# Altium footprint library WCAP-FTXH.PcbLib: 36 footprints (part 2 of 3)
Each footprint in its own frame and in the unit in brackets; x right, y up, seen from the top. Pads: shape width x height; smd on the part's side, far side on the other; paste and mask are expansions set on the pad; w line width, h text height; cw(c..) or ccw(c..) is an arc to the next point about the centre after c.
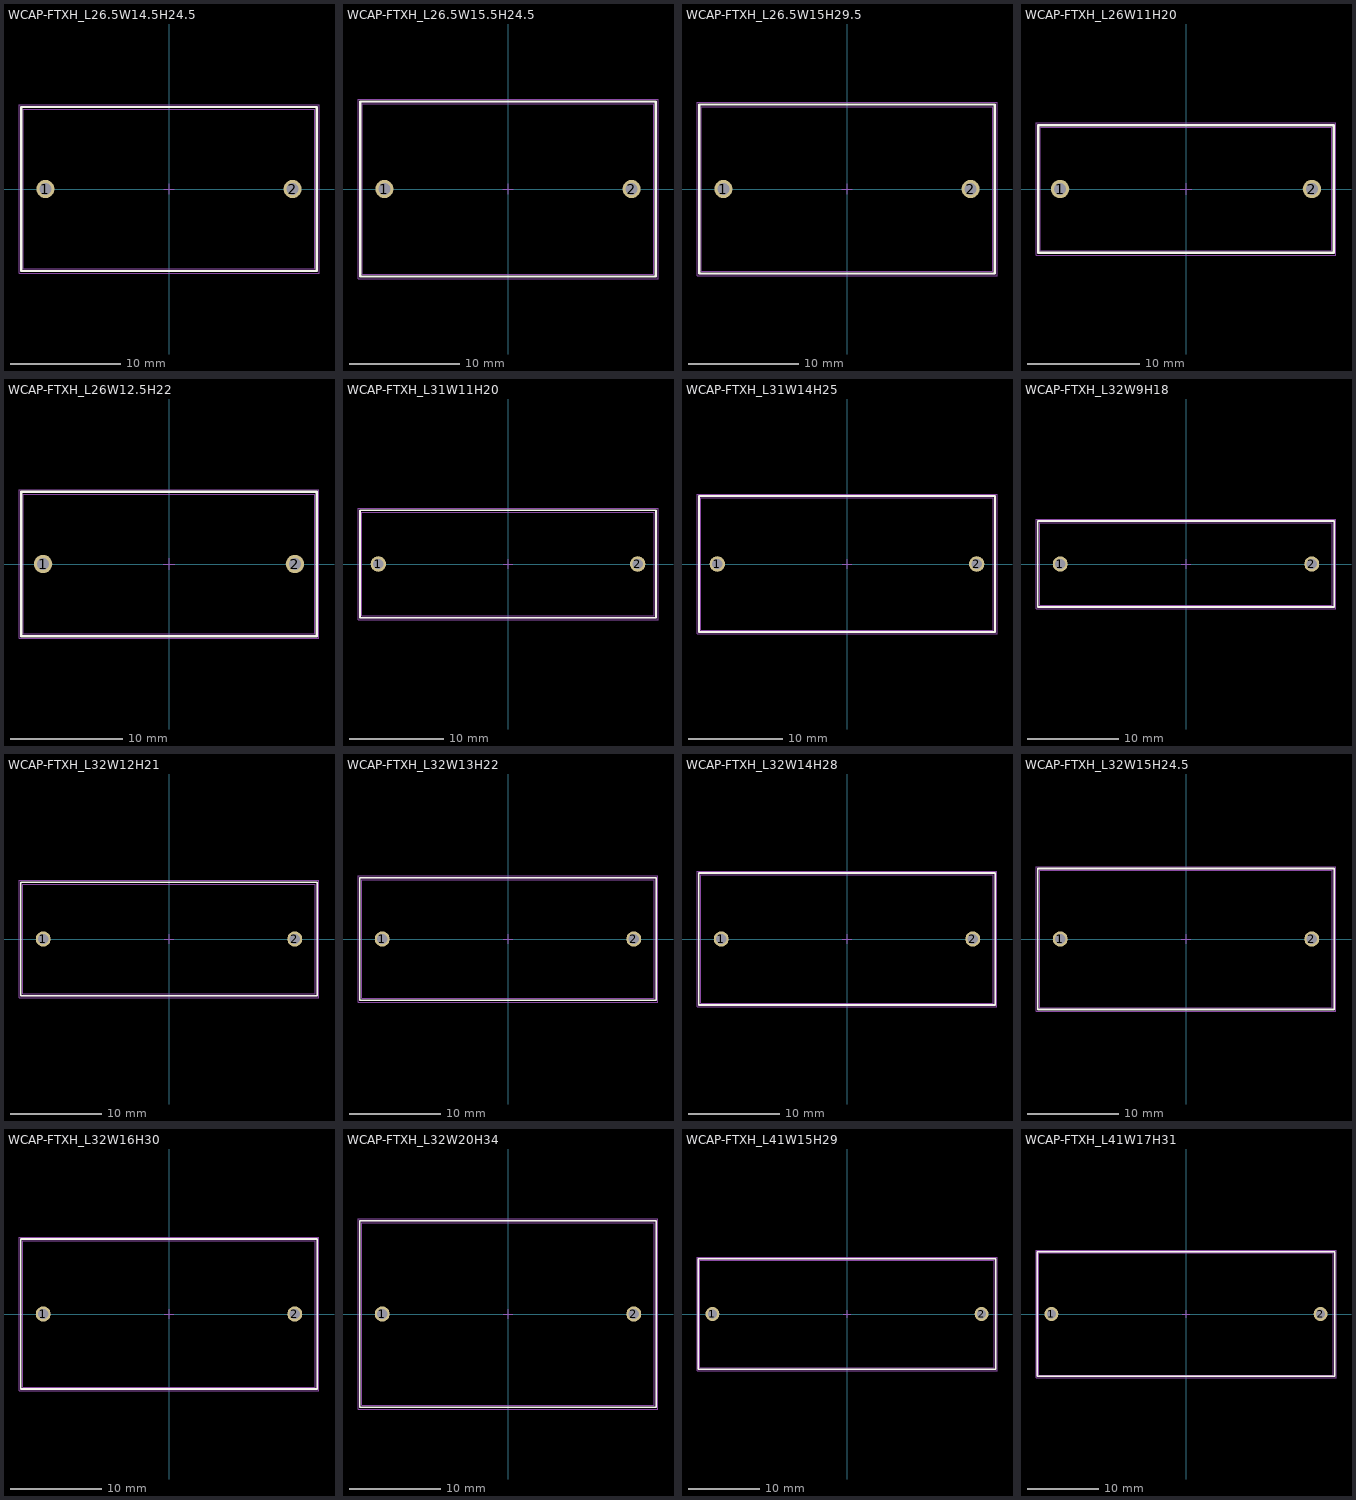
[diagram p1: the footprints below, top view; thin cyan lines are the x and y axes]

## WCAP-FTXH_L26.5W14.5H24.5 [mm] "Film Capacitor, body 26.50x14.50mm"
height 24.5
pads (2):
  round 1.65 hole 1.1: 1(-11.25,0) 2(11.25,0)
Top Overlay:
  lines w0.2: -13.45,-7.45 13.45,-7.45 13.45,7.45 -13.45,7.45 -13.45,-7.45
Top Assembly:
  lines w0.1: -13.45,-7.45 13.45,-7.45 13.45,7.45 -13.45,7.45 -13.45,-7.45
Top Designator:
  text ".Designator" at -3.647,-0.357 h1
Top 3D Body:
  lines w0.1: -13.25,-7.25 13.25,-7.25 13.25,7.25 -13.25,7.25 -13.25,-7.25
Top Courtyard:
  lines w0.05: -13.65,-7.65 13.65,-7.65 13.65,7.65 -13.65,7.65 -13.65,-7.65
Top Component Center:
  lines w0.1: -0.5,0 0.5,0 ; 0,-0.5 0,0.5
3D body "22,5x26,5x14,5x24,5.stp": height 24.35, standoff -3.85, extent -13.25,-7.25 13.25,7.25

## WCAP-FTXH_L26.5W15.5H24.5 [mm] "Film Capacitor, body 26.50x15.50mm"
height 24.5
pads (2):
  round 1.65 hole 1.1: 1(-11.25,0) 2(11.25,0)
Top Overlay:
  lines w0.2: -13.45,-7.95 -13.45,7.95 13.45,7.95 13.45,-7.95 -13.45,-7.95
Top Assembly:
  lines w0.1: -13.45,-7.95 -13.45,7.95 13.45,7.95 13.45,-7.95 -13.45,-7.95
Top Designator:
  text ".Designator" at -3.647,-0.357 h1
Top 3D Body:
  lines w0.1: -13.25,-7.75 -13.25,7.75 13.25,7.75 13.25,-7.75 -13.25,-7.75
Top Courtyard:
  lines w0.05: -13.65,-8.15 -13.65,8.15 13.65,8.15 13.65,-8.15 -13.65,-8.15
Top Component Center:
  lines w0.1: -0.5,0 0.5,0 ; 0,-0.5 0,0.5
3D body "22,5x26,5x15,5x24,5.stp": height 24.35, standoff -3.85, extent -13.25,-7.75 13.25,7.75

## WCAP-FTXH_L26.5W15H29.5 [mm] "Film Capacitor, body 26.50x15.00mm"
height 29.5
pads (2):
  round 1.65 hole 1.1: 1(-11.25,0) 2(11.25,0)
Top Overlay:
  lines w0.2: -13.45,-7.7 -13.45,7.7 13.45,7.7 13.45,-7.7 -13.45,-7.7
Top Assembly:
  lines w0.1: -13.45,-7.7 -13.45,7.7 13.45,7.7 13.45,-7.7 -13.45,-7.7
Top Designator:
  text ".Designator" at -3.647,-0.357 h1
Top 3D Body:
  lines w0.1: -13.25,-7.5 -13.25,7.5 13.25,7.5 13.25,-7.5 -13.25,-7.5
Top Courtyard:
  lines w0.05: -13.65,-7.9 -13.65,7.9 13.65,7.9 13.65,-7.9 -13.65,-7.9
Top Component Center:
  lines w0.1: -0.5,0 0.5,0 ; 0,-0.5 0,0.5
3D body "22,5x26,5x15x29,5.stp": height 29.35, standoff -3.85, extent -13.25,-7.5 13.25,7.5

## WCAP-FTXH_L26W11H20 [mm] "Film Capacitor, body 26.50x11.00mm"
height 20
pads (2):
  round 1.65 hole 1.1: 1(-11.25,0) 2(11.25,0)
Top Overlay:
  lines w0.2: -13.2,-5.7 -13.2,5.7 13.2,5.7 13.2,-5.7 -13.2,-5.7
Top Assembly:
  lines w0.1: -13.2,-5.7 -13.2,5.7 13.2,5.7 13.2,-5.7 -13.2,-5.7
Top Designator:
  text ".Designator" at -3.647,-0.357 h1
Top 3D Body:
  lines w0.1: -13,-5.5 -13,5.5 13,5.5 13,-5.5 -13,-5.5
Top Courtyard:
  lines w0.05: -13.4,-5.9 -13.4,5.9 13.4,5.9 13.4,-5.9 -13.4,-5.9
Top Component Center:
  lines w0.1: -0.5,0 0.5,0 ; 0,-0.5 0,0.5
3D body "22,5x26x11x20.stp": height 19.85, standoff -3.85, extent -13,-5.5 13,5.5

## WCAP-FTXH_L26W12.5H22 [mm] "Film Capacitor, body 26.50x11.00mm"
height 20
pads (2):
  round 1.65 hole 1.1: 1(-11.25,0) 2(11.25,0)
Top Overlay:
  lines w0.2: -13.2,-6.45 13.2,-6.45 13.2,6.45 -13.2,6.45 -13.2,-6.45
Top Assembly:
  lines w0.1: -13.2,-6.45 13.2,-6.45 13.2,6.45 -13.2,6.45 -13.2,-6.45
Top Designator:
  text ".Designator" at -3.647,-0.357 h1
Top 3D Body:
  lines w0.1: -13,-6.25 13,-6.25 13,6.25 -13,6.25 -13,-6.25
Top Courtyard:
  lines w0.05: -13.4,-6.65 13.4,-6.65 13.4,6.65 -13.4,6.65 -13.4,-6.65
Top Component Center:
  lines w0.1: -0.5,0 0.5,0 ; 0,-0.5 0,0.5
3D body "22,5x26x12,5x22.stp": height 22.35, standoff -3.65, extent -13,-6.25 13,6.25

## WCAP-FTXH_L31W11H20 [mm] "Film Capacitor, body 31.00x11.00mm"
height 20
pads (2):
  round 1.65 hole 1.1: 1(-13.75,0) 2(13.75,0)
Top Overlay:
  lines w0.2: -15.7,-5.7 15.7,-5.7 15.7,5.7 -15.7,5.7 -15.7,-5.7
Top Assembly:
  lines w0.1: -15.7,-5.7 15.7,-5.7 15.7,5.7 -15.7,5.7 -15.7,-5.7
Top Designator:
  text ".Designator" at -3.647,-0.357 h1
Top 3D Body:
  lines w0.1: -15.5,-5.5 15.5,-5.5 15.5,5.5 -15.5,5.5 -15.5,-5.5
Top Courtyard:
  lines w0.05: -15.9,-5.9 15.9,-5.9 15.9,5.9 -15.9,5.9 -15.9,-5.9
Top Component Center:
  lines w0.1: -0.5,0 0.5,0 ; 0,-0.5 0,0.5
3D body "27,5x31x11x20.stp": height 20, standoff -4.05, extent -15.5,-5.5 15.5,5.5

## WCAP-FTXH_L31W14H25 [mm] "Film Capacitor, body 31.00x14.00mm"
height 25
pads (2):
  round 1.65 hole 1.1: 1(-13.75,0) 2(13.75,0)
Top Overlay:
  lines w0.2: -15.7,-7.2 -15.7,7.2 15.7,7.2 15.7,-7.2 -15.7,-7.2
Top Assembly:
  lines w0.1: -15.7,-7.2 -15.7,7.2 15.7,7.2 15.7,-7.2 -15.7,-7.2
Top Designator:
  text ".Designator" at -3.647,-0.357 h1
Top 3D Body:
  lines w0.1: -15.5,-7 -15.5,7 15.5,7 15.5,-7 -15.5,-7
Top Courtyard:
  lines w0.05: -15.9,-7.4 -15.9,7.4 15.9,7.4 15.9,-7.4 -15.9,-7.4
Top Component Center:
  lines w0.1: -0.5,0 0.5,0 ; 0,-0.5 0,0.5
3D body "27,5x31x14x25.stp": height 24.85, standoff -3.85, extent -15.5,-7 15.5,7

## WCAP-FTXH_L32W9H18 [mm] "Film Capacitor, body 32.00x9.00mm"
height 18
pads (2):
  round 1.65 hole 1.1: 1(-13.75,0) 2(13.75,0)
Top Overlay:
  lines w0.2: -16.2,-4.7 -16.2,4.7 16.2,4.7 16.2,-4.7 -16.2,-4.7
Top Assembly:
  lines w0.1: -16.2,-4.7 -16.2,4.7 16.2,4.7 16.2,-4.7 -16.2,-4.7
Top Designator:
  text ".Designator" at -3.647,-0.357 h1
Top 3D Body:
  lines w0.1: -16,-4.5 -16,4.5 16,4.5 16,-4.5 -16,-4.5
Top Courtyard:
  lines w0.05: -16.4,-4.9 -16.4,4.9 16.4,4.9 16.4,-4.9 -16.4,-4.9
Top Component Center:
  lines w0.1: -0.5,0 0.5,0 ; 0,-0.5 0,0.5
3D body "27,5x32x9x18.stp": height 17.85, standoff -3.85, extent -16,-4.5 16,4.5

## WCAP-FTXH_L32W12H21 [mm] "Film Capacitor, body 32.00x13.00mm"
height 22
pads (2):
  round 1.65 hole 1.1: 1(-13.75,0) 2(13.75,0)
Top Overlay:
  lines w0.2: -16.2,-6.2 16.2,-6.2 16.2,6.2 -16.2,6.2 -16.2,-6.2
Top Assembly:
  lines w0.1: -16.2,-6.2 16.2,-6.2 16.2,6.2 -16.2,6.2 -16.2,-6.2
Top Designator:
  text ".Designator" at -3.647,-0.357 h1
Top 3D Body:
  lines w0.1: -16,-6 16,-6 16,6 -16,6 -16,-6
Top Courtyard:
  lines w0.05: -16.4,-6.4 16.4,-6.4 16.4,6.4 -16.4,6.4 -16.4,-6.4
Top Component Center:
  lines w0.1: -0.5,0 0.5,0 ; 0,-0.5 0,0.5
3D body "27,5x32x12x21.stp": height 21.57, standoff -3.42, extent -16,-6 16,6

## WCAP-FTXH_L32W13H22 [mm] "Film Capacitor, body 32.00x13.00mm"
height 22
pads (2):
  round 1.65 hole 1.1: 1(-13.75,0) 2(13.75,0)
Top Overlay:
  lines w0.2: -16.2,-6.7 16.2,-6.7 16.2,6.7 -16.2,6.7 -16.2,-6.7
Top Assembly:
  lines w0.1: -16.2,-6.7 16.2,-6.7 16.2,6.7 -16.2,6.7 -16.2,-6.7
Top Designator:
  text ".Designator" at -3.647,-0.357 h1
Top 3D Body:
  lines w0.1: -16,-6.5 16,-6.5 16,6.5 -16,6.5 -16,-6.5
Top Courtyard:
  lines w0.05: -16.4,-6.9 16.4,-6.9 16.4,6.9 -16.4,6.9 -16.4,-6.9
Top Component Center:
  lines w0.1: -0.5,0 0.5,0 ; 0,-0.5 0,0.5
3D body "27,5x32x13x22.stp": height 21.85, standoff -3.85, extent -16,-6.5 16,6.5

## WCAP-FTXH_L32W14H28 [mm] "Film Capacitor, body 32.00x13.00mm"
height 22
pads (2):
  round 1.65 hole 1.1: 1(-13.75,0) 2(13.75,0)
Top Overlay:
  lines w0.2: -16.2,-7.2 16.2,-7.2 16.2,7.2 -16.2,7.2 -16.2,-7.2
Top Assembly:
  lines w0.1: -16.2,-7.2 16.2,-7.2 16.2,7.2 -16.2,7.2 -16.2,-7.2
Top Designator:
  text ".Designator" at -3.647,-0.357 h1
Top 3D Body:
  lines w0.1: -16,-7 16,-7 16,7 -16,7 -16,-7
Top Courtyard:
  lines w0.05: -16.4,-7.4 16.4,-7.4 16.4,7.4 -16.4,7.4 -16.4,-7.4
Top Component Center:
  lines w0.1: -0.5,0 0.5,0 ; 0,-0.5 0,0.5
3D body "27,5x32x14x28.stp": height 28.07, standoff -3.93, extent -16,-7 16,7

## WCAP-FTXH_L32W15H24.5 [mm] "Film Capacitor, body 32.00x15.00mm"
height 24.5
pads (2):
  round 1.65 hole 1.1: 1(-13.75,0) 2(13.75,0)
Top Overlay:
  lines w0.2: -16.2,-7.7 16.2,-7.7 16.2,7.7 -16.2,7.7 -16.2,-7.7
Top Assembly:
  lines w0.1: -16.2,-7.7 16.2,-7.7 16.2,7.7 -16.2,7.7 -16.2,-7.7
Top Designator:
  text ".Designator" at -3.647,-0.357 h1
Top 3D Body:
  lines w0.1: -16,-7.501 16,-7.501 16,7.5 -16,7.5 -16,-7.501
Top Courtyard:
  lines w0.05: -16.4,-7.9 16.4,-7.9 16.4,7.9 -16.4,7.9 -16.4,-7.9
Top Component Center:
  lines w0.1: -0.5,0 0.5,0 ; 0,-0.5 0,0.5
3D body "27.5x32x15x24.5.stp": height 24.57, standoff -3.92, extent -16,-7.501 16,7.5

## WCAP-FTXH_L32W16H30 [mm] "Film Capacitor, body 32.00x16.00mm"
height 30
pads (2):
  round 1.65 hole 1.1: 1(-13.75,0) 2(13.75,0)
Top Overlay:
  lines w0.2: -16.2,-8.2 -16.2,8.2 16.2,8.2 16.2,-8.2 -16.2,-8.2
Top Assembly:
  lines w0.1: -16.2,-8.2 -16.2,8.2 16.2,8.2 16.2,-8.2 -16.2,-8.2
Top Designator:
  text ".Designator" at -3.647,-0.357 h1
Top 3D Body:
  lines w0.1: -16,-8 -16,8 16,8 16,-8 -16,-8
Top Courtyard:
  lines w0.05: -16.4,-8.4 -16.4,8.4 16.4,8.4 16.4,-8.4 -16.4,-8.4
Top Component Center:
  lines w0.1: -0.5,0 0.5,0 ; 0,-0.5 0,0.5
3D body "27,5x32x16x30.stp": height 29.85, standoff -3.85, extent -16,-8 16,8

## WCAP-FTXH_L32W20H34 [mm] "Film Capacitor, body 32.00x20.00mm"
height 34
pads (2):
  round 1.65 hole 1.1: 1(-13.75,0) 2(13.75,0)
Top Overlay:
  lines w0.2: -16.2,-10.2 16.2,-10.2 16.2,10.2 -16.2,10.2 -16.2,-10.2
Top Assembly:
  lines w0.1: -16.2,-10.2 16.2,-10.2 16.2,10.2 -16.2,10.2 -16.2,-10.2
Top Designator:
  text ".Designator" at -3.647,-0.357 h1
Top 3D Body:
  lines w0.1: -16,-10 16,-10 16,10 -16,10 -16,-10
Top Courtyard:
  lines w0.05: -16.4,-10.4 16.4,-10.4 16.4,10.4 -16.4,10.4 -16.4,-10.4
Top Component Center:
  lines w0.1: -0.5,0 0.5,0 ; 0,-0.5 0,0.5
3D body "27,5x32x20x34.stp": height 34, standoff -4.05, extent -16,-10 16,10

## WCAP-FTXH_L41W15H29 [mm] "Film Capacitor, body 41.00x17.00mm"
height 31
pads (2):
  round 1.95 hole 1.3: 1(-18.75,0) 2(18.75,0)
Top Overlay:
  lines w0.2: -20.7,-7.7 -20.7,7.7 20.7,7.7 20.7,-7.7 -20.7,-7.7
Top Assembly:
  lines w0.1: -20.7,-7.7 -20.7,7.7 20.7,7.7 20.7,-7.7 -20.7,-7.7
Top Designator:
  text ".Designator" at -3.647,-0.357 h1
Top 3D Body:
  lines w0.1: -20.5,-7.5 -20.5,7.5 20.5,7.5 20.5,-7.5 -20.5,-7.5
Top Courtyard:
  lines w0.05: -20.9,-7.9 -20.9,7.9 20.9,7.9 20.9,-7.9 -20.9,-7.9
Top Component Center:
  lines w0.1: -0.5,0 0.5,0 ; 0,-0.5 0,0.5
3D body "37,5x41x15x29.stp": height 30.07, standoff -2.93, extent -20.5,-7.5 20.5,7.5

## WCAP-FTXH_L41W17H31 [mm] "Film Capacitor, body 41.00x17.00mm"
height 31
pads (2):
  round 1.95 hole 1.3: 1(-18.75,0) 2(18.75,0)
Top Overlay:
  lines w0.2: -20.7,-8.7 -20.7,8.7 20.7,8.7 20.7,-8.7 -20.7,-8.7
Top Assembly:
  lines w0.1: -20.7,-8.7 -20.7,8.7 20.7,8.7 20.7,-8.7 -20.7,-8.7
Top Designator:
  text ".Designator" at -3.647,-0.357 h1
Top 3D Body:
  lines w0.1: -20.5,-8.5 -20.5,8.5 20.5,8.5 20.5,-8.5 -20.5,-8.5
Top Courtyard:
  lines w0.05: -20.9,-8.9 -20.9,8.9 20.9,8.9 20.9,-8.9 -20.9,-8.9
Top Component Center:
  lines w0.1: -0.5,0 0.5,0 ; 0,-0.5 0,0.5
3D body "37,5x41x17x31.stp": height 30.85, standoff -3.45, extent -20.5,-8.5 20.5,8.5